# Altium integrated library Switchers.IntLib: 9 symbols
Pins are listed as number, name and electrical type; pins without a type are passive.

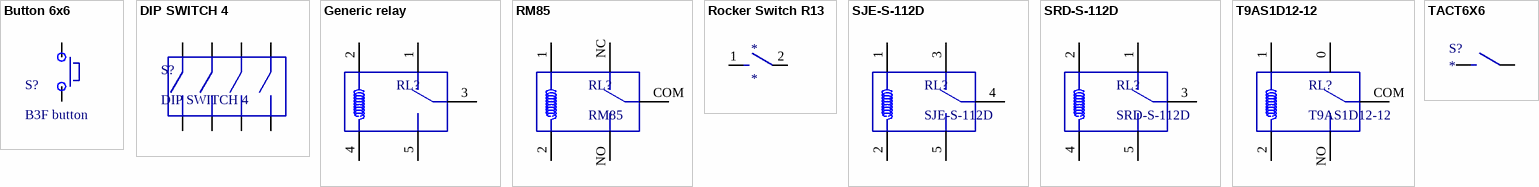
[diagram p0: symbols Button 6x6 to TACT6X6]

## Button 6x6
designator S?, comment B3F button
ComponentDescription: B3F button
footprint Button 6x6
pins: 1, 4

## DIP SWITCH 4
designator S?
ComponentDescription: DIP SWITCH 4
footprint DIP SWITCH 4
pins: 1, 2, 3, 4, 5, 6, 7, 8

## Generic relay
designator RL?
pins: 1, 2, 3, 4, 5

## RM85
designator RL?
ComponentDescription: RM85
footprint RM85
pins: 1, 2, COM, NC, NO

## Rocker Switch R13
designator *
footprint ROCKER SWITCH R13
pins: 1, 2

## SJE-S-112D
designator RL?
ComponentDescription: SJE-S-112D
footprint SJE-S-112D
pins: 1, 2, 3, 4, 5

## SRD-S-112D
designator RL?
ComponentDescription: SRD-S-112D
footprint SRD-S-112D
pins: 1, 2, 3, 4, 5

## T9AS1D12-12
designator RL?
ComponentDescription: T9AS1D12-12
footprint T9A
pins: 0, 1, 2, COM, NO

## TACT6X6
designator S?
footprint Button 6x6
pins: 1, 4